# Altium footprint library Footprints.PcbLib: 17 footprints (part 1 of 2)
Each footprint in its own frame and in the unit in brackets; x right, y up, seen from the top. Pads: shape width x height; smd on the part's side, far side on the other; paste and mask are expansions set on the pad; w line width, h text height; cw(c..) or ccw(c..) is an arc to the next point about the centre after c.
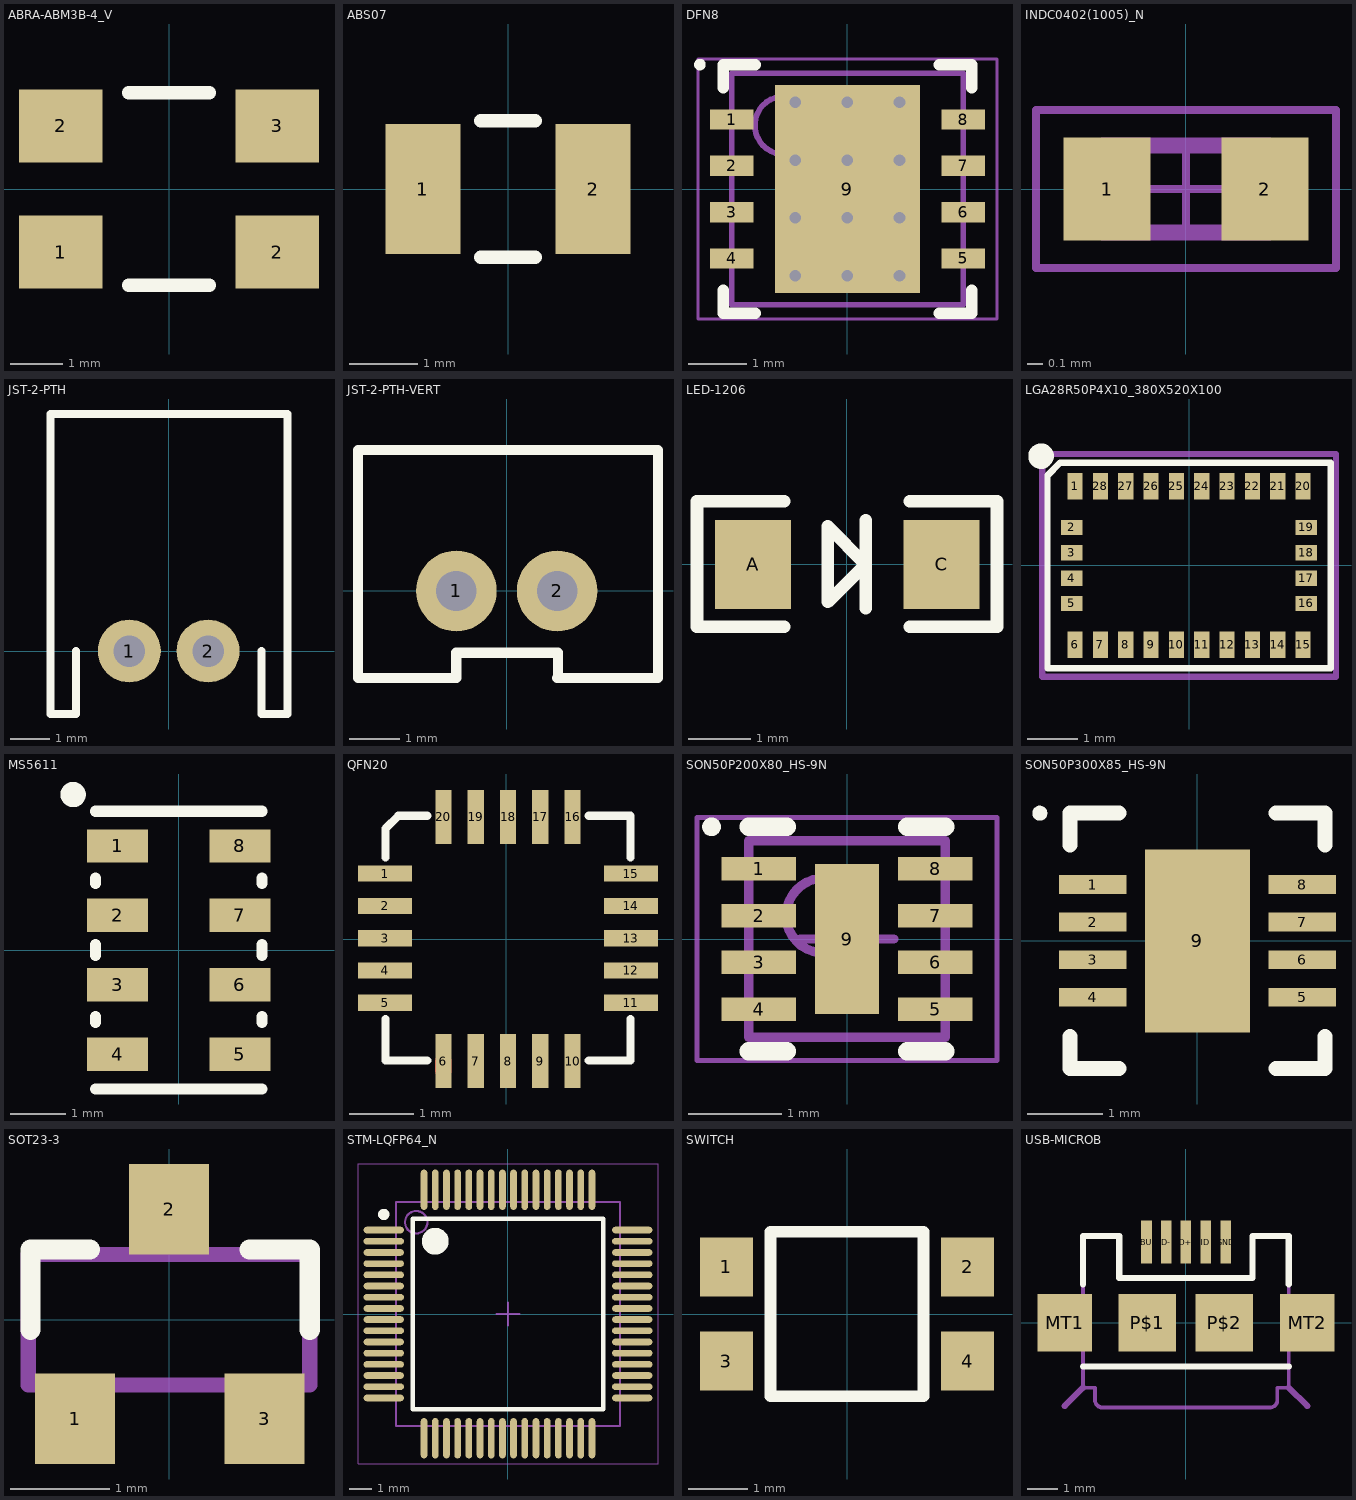
[diagram p0: the footprints below, top view; thin cyan lines are the x and y axes]

## ABRA-ABM3B-4_V [mil] "SMT Crystal, 4-Leads, Body 5.2x3.4mm"
pads (4):
  rect 63x55 smd: 1(-81.5,-47.5) 2(-81.5,47.5) 2(81.5,-47.5) 3(81.5,47.5)
Top Overlay:
  lines w10: -30.5,-72.5 30.5,-72.5 ; -30.5,72.5 30.5,72.5
3D body: height 39.37, standoff 0, extent -114.46,-46.87 113.11,46.73
3D body: height 19.68, standoff 0, extent -97.83,24.91 -62.28,51.12
3D body: height 19.68, standoff 0, extent 67.17,24.91 102.72,51.12
3D body: height 19.68, standoff 0, extent -103.01,-51.67 -67.46,-25.46
3D body: height 19.68, standoff 0, extent 62.19,-52.22 97.74,-26.01

## ABS07 [mm]
pads (2):
  rect 1.1x1.9 smd: 1(-1.25,0) 2(1.25,0)
Top Overlay:
  lines w0.2: -0.4,-1 0.4,-1 ; -0.4,1 0.4,1

## DFN8 [mm] "SON, 8-Leads, Body 4.00x4.00mm, Pitch 0.80mm, Thermal Pad 3.50x2.58mm, IPC Medium Density"
height 0.85
pads (9):
  rect 0.75x0.35 smd: 1(-2,1.2) 2(-2,0.4) 3(-2,-0.4) 4(-2,-1.2) 5(2,-1.2) 6(2,-0.4) 7(2,0.4) 8(2,1.2)
  rect 2.5x3.6 smd paste-1.29: 9(0,0)
via -0.9,0.5 diameter 0.5 hole 0.2
via -0.9,1.5 diameter 0.5 hole 0.2
via 0,1.5 diameter 0.5 hole 0.2
via 0.9,1.5 diameter 0.5 hole 0.2
via 0,0.5 diameter 0.5 hole 0.2
via 0.9,0.5 diameter 0.5 hole 0.2
via -0.9,-0.5 diameter 0.5 hole 0.2
via 0,-0.5 diameter 0.5 hole 0.2
via 0.9,-0.5 diameter 0.5 hole 0.2
via -0.9,-1.5 diameter 0.5 hole 0.2
via 0,-1.5 diameter 0.5 hole 0.2
via 0.9,-1.5 diameter 0.5 hole 0.2
Top Overlay:
  circle w0.1: c-2.55,2.15 r0.05
  lines w0.2: -2.15,-1.75 -2.15,-2.15 -1.59,-2.15 ; -2.15,1.75 -2.15,2.15 -1.59,2.15 ; 1.59,-2.15 2.15,-2.15 2.15,-1.75 ; 1.59,2.15 2.15,2.15 2.15,1.75
Top Paste:
  rectangle: -1.19,0.685 -0.1,1.655
  rectangle: -1.19,-0.485 -0.1,0.485
  rectangle: -1.19,-1.655 -0.1,-0.685
  rectangle: 0.1,0.685 1.19,1.655
  rectangle: 0.1,-0.485 1.19,0.485
  rectangle: 0.1,-1.655 1.19,-0.685
Mechanical 13:
  circle w0.1: c-1.1,1.1 r0.5
  lines w0.1: -2,-2 -2,2 2,2 2,-2 -2,-2
Mechanical 15:
  lines w0.05: -2.585,-2.25 -2.585,2.25 2.585,2.25 2.585,-2.25 -2.585,-2.25
  lines w0.1: -0.5,0 0.5,0 ; 0,-0.5 0,0.5
3D body: height 0.85, standoff 0, extent -2,-2 2,2

## INDC0402(1005)_N [mm] "Chip Inductor Body 1.0x0.5mm, IPC Medium Density"
height 0.4
pads (2):
  rect 0.55x0.65 smd: 1(-0.5,0) 2(0.5,0)
Mechanical 13:
  lines w0.1: -0.525,-0.275 -0.525,0.275 0.525,0.275 0.525,-0.275 -0.525,-0.275
Mechanical 15:
  lines w0.05: -0.275,0 0.275,0 ; 0,-0.275 0,0.275 ; -0.95,-0.5 -0.95,0.5 0.95,0.5 0.95,-0.5 -0.95,-0.5
3D body: height 0.4, standoff 0, extent 0.3,-0.275 0.525,0.275
3D body: height 0.4, standoff 0, extent -0.3,-0.275 0.3,0.275
3D body: height 0.4, standoff 0, extent -0.525,-0.275 -0.3,0.275

## JST-2-PTH [mil]
pads (2):
  round 63 hole 31.5: 1(-39.63,0) 2(39.11,0)
Top Overlay:
  lines w8: -118.37,237 -118.37,-62.99 -92.78,-62.99 -92.78,0 ; -118.11,237 118.52,237 118.52,-62.99 92.52,-62.99 92.52,0
3D body: height 188.98, standoff -133.86, extent -118.11,-62.99 114.17,236.22

## JST-2-PTH-VERT [mm]
pads (2):
  round 1.6 hole 0.8: 1(-1,0) 2(1,0)
Top Overlay:
  lines w0.203: 1,-1.723 3,-1.723 3,2.794 -2.95,2.794 -2.95,-1.723 -1,-1.723 -1,-1.223 1.016,-1.223 1.016,-1.723
3D body: height 6, standoff -3.4, extent -2.95,-1.7 2.95,2.8

## LED-1206 [mil]
pads (2):
  rect 48x56 smd: A(-59.06,0) C(60,0)
Top Overlay:
  lines w8: -39.37,-39.37 -94.49,-39.37 -94.49,40 -39.37,40 ; 12,-27.56 12,0 ; 12,28 12,0 ; 40,-39.37 95,-39.37 95,40 40,40 ; 12,0 -11.81,-23.62 -11.81,24 12,0
3D body: height 43.31, standoff -0.39, extent -62.99,-31.5 62.99,31.5

## LGA28R50P4X10_380X520X100 [mm]
pads (28):
  rect 0.3x0.525 smd mask+0.076: 1(-2.25,1.562) 6(-2.25,-1.562) 7(-1.75,-1.562) 8(-1.25,-1.562) 9(-0.75,-1.562) 10(-0.25,-1.562) 11(0.25,-1.562) 12(0.75,-1.562) 13(1.25,-1.562) 14(1.75,-1.562) 15(2.25,-1.562) 20(2.25,1.562) 21(1.75,1.562) 22(1.25,1.562) 23(0.75,1.562) 24(0.25,1.562) 25(-0.25,1.562) 26(-0.75,1.562) 27(-1.25,1.562) 28(-1.75,1.562)
  rect 0.425x0.3 smd mask+0.076: 2(-2.312,0.75) 3(-2.312,0.25) 4(-2.312,-0.25) 5(-2.312,-0.75) 16(2.312,-0.75) 17(2.312,-0.25) 18(2.312,0.25) 19(2.312,0.75)
Top Overlay:
  circle w0.305: c-2.921,2.159 r0.1
  lines w0.127: -2.794,-2.032 2.794,-2.032 2.794,2.032 -2.54,2.032 -2.794,1.778 -2.794,-2.032
Top Paste:
  region: -2.1,1.825 -2.4,1.825 -2.4,1.3 -2.1,1.3
  region: -2.525,0.9 -2.525,0.6 -2.1,0.6 -2.1,0.9
  region: -2.525,0.4 -2.525,0.1 -2.1,0.1 -2.1,0.4
  region: -2.525,-0.1 -2.525,-0.4 -2.1,-0.4 -2.1,-0.1
  region: -2.525,-0.6 -2.525,-0.9 -2.1,-0.9 -2.1,-0.6
  region: -2.1,-1.3 -2.4,-1.3 -2.4,-1.825 -2.1,-1.825
  region: -1.6,-1.3 -1.9,-1.3 -1.9,-1.825 -1.6,-1.825
  region: -1.1,-1.3 -1.4,-1.3 -1.4,-1.825 -1.1,-1.825
  region: -0.6,-1.3 -0.9,-1.3 -0.9,-1.825 -0.6,-1.825
  region: -0.1,-1.3 -0.4,-1.3 -0.4,-1.825 -0.1,-1.825
  region: 0.4,-1.3 0.1,-1.3 0.1,-1.825 0.4,-1.825
  region: 0.9,-1.3 0.6,-1.3 0.6,-1.825 0.9,-1.825
  region: 1.4,-1.3 1.1,-1.3 1.1,-1.825 1.4,-1.825
  region: 1.9,-1.3 1.6,-1.3 1.6,-1.825 1.9,-1.825
  region: 2.4,-1.3 2.1,-1.3 2.1,-1.825 2.4,-1.825
  region: 2.1,-0.6 2.1,-0.9 2.525,-0.9 2.525,-0.6
  region: 2.1,-0.1 2.1,-0.4 2.525,-0.4 2.525,-0.1
  region: 2.1,0.4 2.1,0.1 2.525,0.1 2.525,0.4
  region: 2.1,0.9 2.1,0.6 2.525,0.6 2.525,0.9
  region: 2.4,1.825 2.1,1.825 2.1,1.3 2.4,1.3
  region: 1.9,1.825 1.6,1.825 1.6,1.3 1.9,1.3
  region: 1.4,1.825 1.1,1.825 1.1,1.3 1.4,1.3
  region: 0.9,1.825 0.6,1.825 0.6,1.3 0.9,1.3
  region: 0.4,1.825 0.1,1.825 0.1,1.3 0.4,1.3
  region: -0.1,1.825 -0.4,1.825 -0.4,1.3 -0.1,1.3
  region: -0.6,1.825 -0.9,1.825 -0.9,1.3 -0.6,1.3
  region: -1.1,1.825 -1.4,1.825 -1.4,1.3 -1.1,1.3
  region: -1.6,1.825 -1.9,1.825 -1.9,1.3 -1.6,1.3
Mechanical 1:
  lines w0.127: -2.9,-2.2 2.9,-2.2 2.9,2.2 -2.9,2.2 -2.9,-2.2
3D body: height 0.6, standoff 0, extent -2.5,-1.8 2.5,1.8

## MS5611 [mm]
pads (8):
  rect 1.1x0.6 smd: 1(-1.1,1.875) 2(-1.1,0.625) 3(-1.1,-0.625) 4(-1.1,-1.875) 5(1.1,-1.875) 6(1.1,-0.625) 7(1.1,0.625) 8(1.1,1.875)
Top Overlay:
  circle w0.254: c-1.9,2.8 r0.1
  lines w0.2: -1.5,-2.5 1.5,-2.5 ; -1.5,-1.3 -1.5,-1.2 ; -1.5,-0.1 -1.5,0.1 ; -1.5,1.2 -1.5,1.3 ; -1.5,2.5 1.5,2.5 ; 1.5,-1.3 1.5,-1.2 ; 1.5,-0.1 1.5,0.1 ; 1.5,1.2 1.5,1.3

## QFN20 [mm]
pads (20):
  rect 0.84x0.25 smd: 1(-1.876,1.016) 2(-1.876,0.516) 3(-1.876,0.016) 4(-1.876,-0.484) 5(-1.876,-0.984) 11(1.931,-0.984) 12(1.931,-0.484) 13(1.931,0.016) 14(1.931,0.516) 15(1.931,1.016)
  rect 0.25x0.84 smd: 6(-0.972,-1.887) 7(-0.472,-1.887) 8(0.028,-1.887) 9(0.528,-1.887) 10(1.028,-1.887) 16(1.028,1.894) 17(0.528,1.894) 18(0.028,1.894) 19(-0.472,1.894) 20(-0.972,1.894)
Top Layer:
  lines w0.254: -0.972,-2.039 -0.972,-1.887
Top Overlay:
  lines w0.127: -1.867,-1.234 -1.867,-1.879 -1.222,-1.879 ; -1.867,1.266 -1.867,1.716 -1.672,1.911 -1.222,1.911 ; 1.278,-1.879 1.923,-1.879 1.923,-1.234 ; 1.278,1.911 1.923,1.911 1.923,1.266
3D body: height 0.62, standoff -0.08, extent -1.5,-1.5 1.5,1.5

## SON50P200X80_HS-9N [mm] "SON, 8-Leads, Body 2.00x2.00mm, Pitch 0.50mm, Thermal Pad 1.60x0.69mm, IPC Medium Density"
height 0.8
pads (9):
  rect 0.8x0.25 smd mask+0.08: 1(-0.945,0.75) 2(-0.945,0.25) 3(-0.945,-0.25) 4(-0.945,-0.75) 5(0.945,-0.75) 6(0.945,-0.25) 7(0.945,0.25) 8(0.945,0.75)
  rect 0.69x1.6 smd paste-0.345 mask+0.08: 9(0,0)
Top Overlay:
  circle w0.1: c-1.45,1.2 r0.05
  lines w0.2: -1.05,-1.2 -0.645,-1.2 ; -1.05,1.2 -0.645,1.2 ; 0.645,-1.2 1.05,-1.2 ; 0.645,1.2 1.05,1.2
Mechanical 13:
  circle w0.1: c-0.25,0.25 r0.4
  lines w0.1: -1.05,-1.05 1.05,-1.05 1.05,1.05 -1.05,1.05 -1.05,-1.05
Mechanical 15:
  lines w0.05: -1.605,-1.3 1.605,-1.3 1.605,1.3 -1.605,1.3 -1.605,-1.3
  lines w0.1: -0.5,0 0.5,0 ; 0,-0.5 0,0.5
3D body: height 0.8, standoff 0, extent -1.05,-1.05 1.05,1.05

## SON50P300X85_HS-9N [mm] "SON, 8-Leads, Body 3.00x3.00mm, Pitch 0.50mm, Thermal Pad 2.44x1.49mm, IPC Medium Density"
height 0.85
pads (9):
  rect 0.9x0.25 smd: 1(-1.395,0.75) 2(-1.395,0.25) 3(-1.395,-0.25) 4(-1.395,-0.75) 5(1.395,-0.75) 6(1.395,-0.25) 7(1.395,0.25) 8(1.395,0.75)
  rect 1.4x2.44 smd: 9(0,0)
Top Overlay:
  circle w0.1: c-2.1,1.7 r0.05
  lines w0.2: -1.7,-1.275 -1.7,-1.7 -1.045,-1.7 ; -1.7,1.275 -1.7,1.7 -1.045,1.7 ; 1.045,-1.7 1.7,-1.7 1.7,-1.275 ; 1.045,1.7 1.7,1.7 1.7,1.275
3D body: height 0.85, standoff 0, extent -1.55,-1.55 1.55,1.55

## SOT23-3 [mil]
pads (3):
  rect 32x36 smd: 1(-37.4,-39.37) 2(0,44) 3(38,-39.37)
Top Overlay:
  lines w8: -55.12,-3.94 -55.12,28 -31.5,28 ; 32,28 56,28 56,-3.94
Mechanical 16:
  lines w6: -56,-26 56,-26 56,26 -56,26 -56,-26

## STM-LQFP64_N [mm] "Thin QFP, 64-Leads, Body 10x10mm, Pitch 0.5mm, IPC Medium Density"
height 1.6
pads (64):
  oval 1.8x0.3 smd: 1(-5.55,3.75) 2(-5.55,3.25) 3(-5.55,2.75) 4(-5.55,2.25) 5(-5.55,1.75) 6(-5.55,1.25) 7(-5.55,0.75) 8(-5.55,0.25) 9(-5.55,-0.25) 10(-5.55,-0.75) 11(-5.55,-1.25) 12(-5.55,-1.75) 13(-5.55,-2.25) 14(-5.55,-2.75) 15(-5.55,-3.25) 16(-5.55,-3.75) 33(5.55,-3.75) 34(5.55,-3.25) 35(5.55,-2.75) 36(5.55,-2.25) 37(5.55,-1.75) 38(5.55,-1.25) 39(5.55,-0.75) 40(5.55,-0.25) 41(5.55,0.25) 42(5.55,0.75) 43(5.55,1.25) 44(5.55,1.75) 45(5.55,2.25) 46(5.55,2.75) 47(5.55,3.25) 48(5.55,3.75)
  oval 0.3x1.8 smd: 17(-3.75,-5.55) 18(-3.25,-5.55) 19(-2.75,-5.55) 20(-2.25,-5.55) 21(-1.75,-5.55) 22(-1.25,-5.55) 23(-0.75,-5.55) 24(-0.25,-5.55) 25(0.25,-5.55) 26(0.75,-5.55) 27(1.25,-5.55) 28(1.75,-5.55) 29(2.25,-5.55) 30(2.75,-5.55) 31(3.25,-5.55) 32(3.75,-5.55) 49(3.75,5.55) 50(3.25,5.55) 51(2.75,5.55) 52(2.25,5.55) 53(1.75,5.55) 54(1.25,5.55) 55(0.75,5.55) 56(0.25,5.55) 57(-0.25,5.55) 58(-0.75,5.55) 59(-1.25,5.55) 60(-1.75,5.55) 61(-2.25,5.55) 62(-2.75,5.55) 63(-3.25,5.55) 64(-3.75,5.55)
Top Overlay:
  circle w0.6: c-3.25,3.25 r0.3
  circle w0.25: c-5.55,4.45 r0.125
  lines w0.2: -4.25,-4.25 4.25,-4.25 4.25,4.25 -4.25,4.25 -4.25,-4.25
Mechanical 13:
  circle w0.1: c-4.1,4.1 r0.5
  lines w0.1: -5,-5 5,-5 5,5 -5,5 -5,-5
Mechanical 15:
  lines w0.05: -6.7,-6.7 6.7,-6.7 6.7,6.7 -6.7,6.7 -6.7,-6.7
  lines w0.1: -0.5,0 0.5,0 ; 0,-0.5 0,0.5
3D body: height 1.62, standoff -0.01, extent -6.072,-6.072 6.072,6.072

## SWITCH [mm]
pads (4):
  rect 0.9x1 smd: 1(-2.05,0.8) 2(2.05,0.8) 3(-2.05,-0.8) 4(2.05,-0.8)
Top Overlay:
  lines w0.2: -1.3,-1.4 -1.3,1.4 1.3,1.4 1.3,-1.4 -1.3,-1.4
3D body: height 1.9, standoff 0, extent -2.3,-1.4 2.3,1.4

## USB-MICROB [mil]
pads (9):
  rect 14x56 smd: D+(0,105) D-(-25.59,105) GND(52,105) ID(26,105) VBUS(-51.18,105)
  rect 71x75 smd: MT1(-157.48,0) MT2(158,0)
  rect 75x75 smd: P$1(-50,0) P$2(50,0)
Top Overlay:
  lines w8: -133.86,-57.09 134,-57.09 ; -133.86,50 -133.86,113 -86.61,113 -86.61,58 87,58 87,113 134,113 134,50
Mechanical 16:
  lines w5: -133.86,-57.09 -133.86,-84.65 -118.11,-84.65 -118.11,-100.39 ccw(c-108.76,-100.98) -110.24,-110.24 109,-110.24 ccw(c109.67,-100.8) 119,-102.36 119,-84.65 134,-84.65 134,-57.09 ; -133.86,-57.09 -133.86,113 -86.61,113 -86.61,58 87,58 87,113 134,113 134,-57.09 ; -133.86,-57.09 134,-57.09
  lines w8: -157.48,-108.27 -133.86,-84.65 ; 134,-84.65 158,-108.27
3D body: height 107.62, standoff -7.48, extent -156.44,-79.76 157.48,133.86